# Altium footprint library SamacSys.PcbLib: 18 footprints (part 1 of 2)
Each footprint in its own frame and in the unit in brackets; x right, y up, seen from the top. Pads: shape width x height; smd on the part's side, far side on the other; paste and mask are expansions set on the pad; w line width, h text height; cw(c..) or ccw(c..) is an arc to the next point about the centre after c.
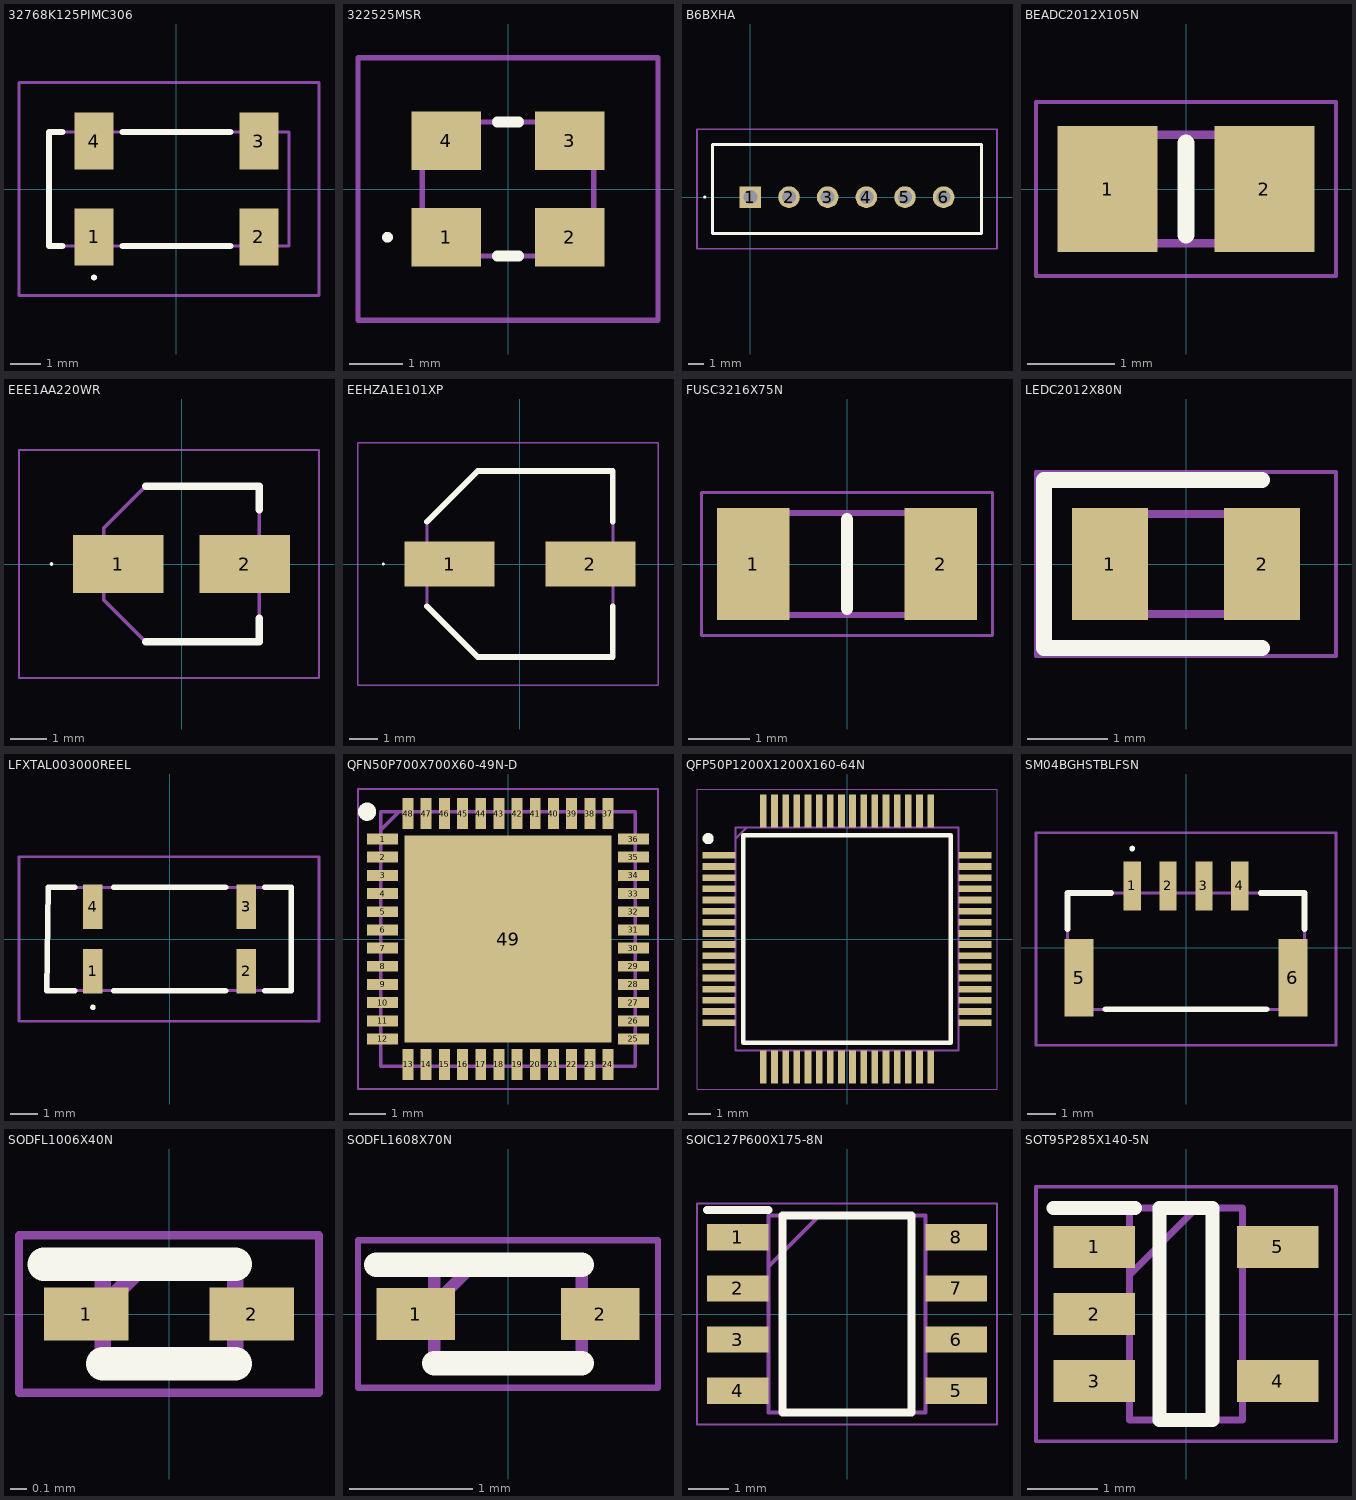
[diagram p0: the footprints below, top view; thin cyan lines are the x and y axes]

## 32768K125PIMC306 [mm]
pads (4):
  rect 1.3x1.9 smd: 1(-2.75,-1.6) 2(2.75,-1.6) 3(2.75,1.6) 4(-2.75,1.6)
Top Overlay:
  lines w0.1: -2.75,-3 ccw(c-2.75,-2.95) -2.75,-2.9 ccw(c-2.75,-2.95) -2.75,-3
  lines w0.2: -3.8,-1.9 -4.25,-1.9 -4.25,1.9 -3.8,1.9 ; -1.8,-1.9 1.8,-1.9 ; -1.8,1.9 1.8,1.9
Mechanical 13:
  lines w0.1: -4.25,-1.9 3.75,-1.9 3.75,1.9 -4.25,1.9 -4.25,-1.9
Mechanical 15:
  lines w0.1: -5.25,-3.55 4.75,-3.55 4.75,3.55 -5.25,3.55 -5.25,-3.55
3D body "32.768K12.5PI_MC306.stp": height 2.6, standoff 0, extent -4.25,-2.42 3.75,2.42

## 322525MSR [mm]
pads (4):
  rect 1.3x1.1 smd: 1(-1.15,-0.9) 2(1.15,-0.9) 3(1.15,0.9) 4(-1.15,0.9)
Top Overlay:
  lines w0.1: -2.3,-0.9 cw(c-2.25,-0.9) -2.2,-0.9 cw(c-2.25,-0.9) -2.3,-0.9
  lines w0.2: -0.2,-1.25 0.2,-1.25 ; -0.2,1.25 0.2,1.25
Mechanical 13:
  lines w0.1: -1.6,-1.25 -1.6,1.25 1.6,1.25 1.6,-1.25 -1.6,-1.25
Mechanical 15:
  lines w0.1: -2.8,-2.45 -2.8,2.45 2.8,2.45 2.8,-2.45 -2.8,-2.45
3D body "3225-25M-SR.stp": height 0.8, standoff 0, extent -1.69,-1.34 1.69,1.34

## B6BXHA [mm]
pads (6):
  rect 1.4x1.4 hole 0.9: 1(0,0)
  round 1.4 hole 0.9: 2(2.5,0) 3(5,0) 4(7.5,0) 5(10,0) 6(12.5,0)
Top Overlay:
  lines w0.1: -3,0 cw(c-2.95,0) -2.9,0 cw(c-2.95,0) -3,0
  lines w0.2: -2.45,-2.35 -2.45,3.4 14.95,3.4 14.95,-2.35 -2.45,-2.35
Mechanical 13:
  lines w0.1: -2.45,-2.35 -2.45,3.4 14.95,3.4 14.95,-2.35 -2.45,-2.35
Mechanical 15:
  lines w0.1: -3.45,-3.35 -3.45,4.4 15.95,4.4 15.95,-3.35 -3.45,-3.35
3D body "B6B-XH-A.stp": height 7.1, standoff -5, extent -2.45,-2.35 14.95,3.4

## BEADC2012X105N [mm]
pads (2):
  rect 1.15x1.45 smd: 1(-0.9,0) 2(0.9,0)
Top Overlay:
  lines w0.2: 0,-0.525 0,0.525
Mechanical 13:
  lines w0.1: -1,-0.625 -1,0.625 1,0.625 1,-0.625 -1,-0.625
Mechanical 15:
  lines w0.05: -1.725,-1 -1.725,1 1.725,1 1.725,-1 -1.725,-1
3D body "BLM21PG221SN1D.stp": height 1.05, standoff 0, extent -1,-0.625 1,0.625

## EEE1AA220WR [mm]
pads (2):
  rect 2.5x1.6 smd: 1(-1.75,0) 2(1.75,0)
Top Overlay:
  lines w0.05: -3.625,0 cw(c-3.6,0) -3.575,0 cw(c-3.6,0) -3.625,0
  lines w0.2: -1,-2.15 2.15,-2.15 2.15,-1.5 ; 2.15,2.15 -1,2.15 2.15,2.15 ; 2.15,2.15 2.15,1.5 2.15,2.15
Mechanical 13:
  lines w0.1: -2.15,1 -1,2.15 ; -2.15,1 -2.15,-1 -1,-2.15 2.15,-2.15 2.15,2.15 -1,2.15 ; -2.15,1 -1,2.15
Mechanical 15:
  lines w0.05: -4.5,-3.15 -4.5,3.15 3.8,3.15 3.8,-3.15 -4.5,-3.15
3D body "EEE1CA100SR.stp": height 5.78, standoff -0.02, extent -2.5,-2.15 2.5,2.15

## EEHZA1E101XP [mm]
pads (2):
  rect 3.2x1.6 smd: 1(-2.5,0) 2(2.5,0)
Top Overlay:
  lines w0.05: -4.875,0 cw(c-4.85,0) -4.825,0 cw(c-4.85,0) -4.875,0
  lines w0.2: -3.3,-1.5 -1.5,-3.3 3.3,-3.3 3.3,-1.5 ; -3.3,1.5 -1.5,3.3 3.3,3.3 3.3,1.5
Mechanical 13:
  lines w0.1: -3.3,1.5 -1.5,3.3 ; -3.3,1.5 -3.3,-1.5 -1.5,-3.3 3.3,-3.3 3.3,3.3 -1.5,3.3 ; -3.3,1.5 -1.5,3.3
Mechanical 15:
  lines w0.05: -5.75,-4.3 -5.75,4.3 4.9,4.3 4.9,-4.3 -5.75,-4.3
3D body "EEHZA1E101XP.stp": height 5.8, standoff 0, extent -3.68,-3.3 3.62,3.3

## FUSC3216X75N [mm]
pads (2):
  rect 1.17x1.82 smd: 1(-1.52,0) 2(1.52,0)
Top Overlay:
  lines w0.2: 0,-0.725 0,0.725
Mechanical 13:
  lines w0.1: -1.625,-0.825 -1.625,0.825 1.625,0.825 1.625,-0.825 -1.625,-0.825
Mechanical 15:
  lines w0.05: -2.355,-1.16 -2.355,1.16 2.355,1.16 2.355,-1.16 -2.355,-1.16
3D body "0ZCJ0025FF2E.stp": height 0.6, standoff 0, extent -1.675,-0.825 1.675,0.825

## LEDC2012X80N [mm]
pads (2):
  rect 0.95x1.4 smd: 1(-0.95,0) 2(0.95,0)
Top Overlay:
  lines w0.2: 0.95,-1.05 -1.775,-1.05 -1.775,1.05 0.95,1.05
Mechanical 13:
  lines w0.1: -1,0.208 -0.583,0.625 ; -1,-0.625 -1,0.625 1,0.625 1,-0.625 -1,-0.625
Mechanical 15:
  lines w0.05: -1.875,-1.15 -1.875,1.15 1.875,1.15 1.875,-1.15 -1.875,-1.15
3D body "HSMG-C170.stp": height 0.8, standoff 0, extent -1,-0.625 1,0.625

## LFXTAL003000REEL [mm]
pads (4):
  rect 0.7x1.6 smd: 1(-2.75,-1.15) 2(2.75,-1.15) 3(2.75,1.15) 4(-2.75,1.15)
Top Overlay:
  lines w0.1: -2.75,-2.5 ccw(c-2.75,-2.45) -2.75,-2.4 ccw(c-2.75,-2.45) -2.75,-2.5
  lines w0.2: -3.4,-1.85 -4.4,-1.85 -4.35,1.85 -3.4,1.85 ; -2,-1.85 2,-1.85 ; -2,1.85 2,1.85 ; 3.4,-1.85 4.35,-1.85 4.35,1.85 3.4,1.85
Mechanical 13:
  lines w0.1: -4.35,-1.85 -4.35,1.85 4.35,1.85 4.35,-1.85 -4.35,-1.85
Mechanical 15:
  lines w0.1: -5.4,-2.95 -5.4,2.95 5.35,2.95 5.35,-2.95 -5.4,-2.95
3D body "LFXTAL003000REEL.stp": height 2.6, standoff 0, extent -4.35,-1.88 4.35,1.88

## QFN50P700X700X60-49N-D [mm]
pads (49):
  rect 0.85x0.3 smd: 1(-3.45,2.75) 2(-3.45,2.25) 3(-3.45,1.75) 4(-3.45,1.25) 5(-3.45,0.75) 6(-3.45,0.25) 7(-3.45,-0.25) 8(-3.45,-0.75) 9(-3.45,-1.25) 10(-3.45,-1.75) 11(-3.45,-2.25) 12(-3.45,-2.75) 25(3.45,-2.75) 26(3.45,-2.25) 27(3.45,-1.75) 28(3.45,-1.25) 29(3.45,-0.75) 30(3.45,-0.25) 31(3.45,0.25) 32(3.45,0.75) 33(3.45,1.25) 34(3.45,1.75) 35(3.45,2.25) 36(3.45,2.75)
  rect 0.3x0.85 smd: 13(-2.75,-3.45) 14(-2.25,-3.45) 15(-1.75,-3.45) 16(-1.25,-3.45) 17(-0.75,-3.45) 18(-0.25,-3.45) 19(0.25,-3.45) 20(0.75,-3.45) 21(1.25,-3.45) 22(1.75,-3.45) 23(2.25,-3.45) 24(2.75,-3.45) 37(2.75,3.45) 38(2.25,3.45) 39(1.75,3.45) 40(1.25,3.45) 41(0.75,3.45) 42(0.25,3.45) 43(-0.25,3.45) 44(-0.75,3.45) 45(-1.25,3.45) 46(-1.75,3.45) 47(-2.25,3.45) 48(-2.75,3.45)
  rect 5.7x5.7 smd: 49(0,0)
Top Overlay:
  circle w0.25: c-3.875,3.5 r0.125
Mechanical 13:
  lines w0.1: -3.5,3 -3,3.5 ; -3.5,-3.5 -3.5,3.5 3.5,3.5 3.5,-3.5 -3.5,-3.5
Mechanical 15:
  lines w0.05: -4.125,-4.125 -4.125,4.125 4.125,4.125 4.125,-4.125 -4.125,-4.125
3D body "STM32F401CCU6.stp": height 0.61, standoff 0, extent -3.556,-3.556 3.556,3.556

## QFP50P1200X1200X160-64N [mm]
pads (64):
  rect 1.475x0.3 smd: 1(-5.738,3.75) 2(-5.738,3.25) 3(-5.738,2.75) 4(-5.738,2.25) 5(-5.738,1.75) 6(-5.738,1.25) 7(-5.738,0.75) 8(-5.738,0.25) 9(-5.738,-0.25) 10(-5.738,-0.75) 11(-5.738,-1.25) 12(-5.738,-1.75) 13(-5.738,-2.25) 14(-5.738,-2.75) 15(-5.738,-3.25) 16(-5.738,-3.75) 33(5.738,-3.75) 34(5.738,-3.25) 35(5.738,-2.75) 36(5.738,-2.25) 37(5.738,-1.75) 38(5.738,-1.25) 39(5.738,-0.75) 40(5.738,-0.25) 41(5.738,0.25) 42(5.738,0.75) 43(5.738,1.25) 44(5.738,1.75) 45(5.738,2.25) 46(5.738,2.75) 47(5.738,3.25) 48(5.738,3.75)
  rect 0.3x1.475 smd: 17(-3.75,-5.738) 18(-3.25,-5.738) 19(-2.75,-5.738) 20(-2.25,-5.738) 21(-1.75,-5.738) 22(-1.25,-5.738) 23(-0.75,-5.738) 24(-0.25,-5.738) 25(0.25,-5.738) 26(0.75,-5.738) 27(1.25,-5.738) 28(1.75,-5.738) 29(2.25,-5.738) 30(2.75,-5.738) 31(3.25,-5.738) 32(3.75,-5.738) 49(3.75,5.738) 50(3.25,5.738) 51(2.75,5.738) 52(2.25,5.738) 53(1.75,5.738) 54(1.25,5.738) 55(0.75,5.738) 56(0.25,5.738) 57(-0.25,5.738) 58(-0.75,5.738) 59(-1.25,5.738) 60(-1.75,5.738) 61(-2.25,5.738) 62(-2.75,5.738) 63(-3.25,5.738) 64(-3.75,5.738)
Top Overlay:
  circle w0.25: c-6.225,4.5 r0.125
  lines w0.2: -4.65,-4.65 -4.65,4.65 4.65,4.65 4.65,-4.65 -4.65,-4.65
Mechanical 13:
  lines w0.1: -5,4.5 -4.5,5 ; -5,-5 -5,5 5,5 5,-5 -5,-5
Mechanical 15:
  lines w0.05: -6.725,-6.725 -6.725,6.725 6.725,6.725 6.725,-6.725 -6.725,-6.725
3D body "STM32F401RET6.stp": height 1.6, standoff 0, extent -6,-6 6,6

## SM04BGHSTBLFSN [mm]
pads (6):
  rect 0.6x1.7 smd: 1(-1.875,2.15) 2(-0.625,2.15) 3(0.625,2.15) 4(1.875,2.15)
  rect 1x2.7 smd: 5(-3.725,-1.05) 6(3.725,-1.05)
Top Overlay:
  lines w0.1: -1.875,3.4 cw(c-1.875,3.45) -1.875,3.5 cw(c-1.875,3.45) -1.875,3.4
  lines w0.2: -4.125,0.65 -4.125,1.9 -2.6,1.9 ; -2.8,-2.15 2.8,-2.15 ; 2.6,1.9 4.125,1.9 4.125,0.65
Mechanical 13:
  lines w0.1: -4.125,-2.15 -4.125,1.9 4.125,1.9 4.125,-2.15 -4.125,-2.15
Mechanical 15:
  lines w0.1: -5.225,-3.4 -5.225,4 5.225,4 5.225,-3.4 -5.225,-3.4
3D body "SM04B-GHS-TB__LF__SN_.stp": height 4.45, standoff 0, extent -4.125,-2.3 4.125,2.94

## SODFL1006X40N [mm]
pads (2):
  rect 0.51x0.32 smd: 1(-0.5,0) 2(0.5,0)
Top Overlay:
  lines w0.2: -0.755,0.3 0.4,0.3 ; -0.4,-0.3 0.4,-0.3
Mechanical 13:
  lines w0.1: -0.4,0.045 -0.145,0.3 ; -0.4,-0.3 -0.4,0.3 0.4,0.3 0.4,-0.3 -0.4,-0.3
Mechanical 15:
  lines w0.05: -0.905,-0.475 -0.905,0.475 0.905,0.475 0.905,-0.475 -0.905,-0.475
3D body "ESD9B5.0ST5G.stp": height 0.4, standoff 0, extent -0.5,-0.3 0.5,0.3

## SODFL1608X70N [mm]
pads (2):
  rect 0.64x0.42 smd: 1(-0.75,0) 2(0.75,0)
Top Overlay:
  lines w0.2: -1.07,0.4 0.6,0.4 ; -0.6,-0.4 0.6,-0.4
Mechanical 13:
  lines w0.1: -0.6,0.08 -0.28,0.4 ; -0.6,-0.4 -0.6,0.4 0.6,0.4 0.6,-0.4 -0.6,-0.4
Mechanical 15:
  lines w0.05: -1.22,-0.6 -1.22,0.6 1.22,0.6 1.22,-0.6 -1.22,-0.6
3D body "ESD5Z5.0T1G.stp": height 0.7, standoff 0, extent -0.8,-0.4 0.8,0.4

## SOIC127P600X175-8N [mm]
pads (8):
  rect 1.525x0.65 smd: 1(-2.712,1.905) 2(-2.712,0.635) 3(-2.712,-0.635) 4(-2.712,-1.905) 5(2.712,-1.905) 6(2.712,-0.635) 7(2.712,0.635) 8(2.712,1.905)
Top Overlay:
  lines w0.2: -3.475,2.58 -1.95,2.58 ; -1.6,-2.45 1.6,-2.45 1.6,2.45 -1.6,2.45 -1.6,-2.45
Mechanical 13:
  lines w0.1: -1.95,1.18 -0.68,2.45 ; -1.95,-2.45 1.95,-2.45 1.95,2.45 -1.95,2.45 -1.95,-2.45
Mechanical 15:
  lines w0.05: -3.725,-2.75 3.725,-2.75 3.725,2.75 -3.725,2.75 -3.725,-2.75
3D body "NE555DR.stp": height 1.75, standoff 0, extent -3,-2.45 3,2.45

## SOT95P285X140-5N [mm]
pads (5):
  rect 1.15x0.6 smd: 1(-1.3,0.95) 2(-1.3,0) 3(-1.3,-0.95) 4(1.3,-0.95) 5(1.3,0.95)
Top Overlay:
  lines w0.2: -1.875,1.5 -0.725,1.5 ; -0.375,-1.5 -0.375,1.5 0.375,1.5 0.375,-1.5 -0.375,-1.5
Mechanical 13:
  lines w0.1: -0.8,0.55 0.15,1.5 ; -0.8,-1.5 -0.8,1.5 0.8,1.5 0.8,-1.5 -0.8,-1.5
Mechanical 15:
  lines w0.05: -2.125,-1.8 -2.125,1.8 2.125,1.8 2.125,-1.8 -2.125,-1.8
3D body "AP2112K-3.3TRG1.stp": height 1.4, standoff 0, extent -1.425,-1.5 1.425,1.5